# Altium schematic symbol library Molex 1053091203.SchLib: 2 symbols
Pins are listed as number, name and electrical type; pins without a type are passive.

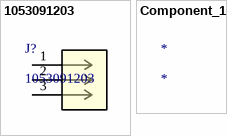
[diagram p0: symbols 1053091203 to Component_1]

## 1053091203
designator J?
No Description Available; Vendor: Molex Connector Corporation; SourceLibrary: Add_to_database_2021-01-18; Manufacturer_Part_Number: 1053091203; Copyright: Copyright (C) 2021 Accelerated Designs. All rights reserved; RefDes: RefDes; Type: DEV
footprint CON_1053091203
pins: 1, 2, 3

## Component_1
designator *